# EAGLE library part IC_TTL_74_139 (library mylib_20130829)
IC_TTL_74_139 : Dual 2-line to 4-line DECODER/DEMULTIPLEXER Packages : _DIP : 2.54 x 16 x 300mil _FLAT : 1.27 x 16 x 150mil
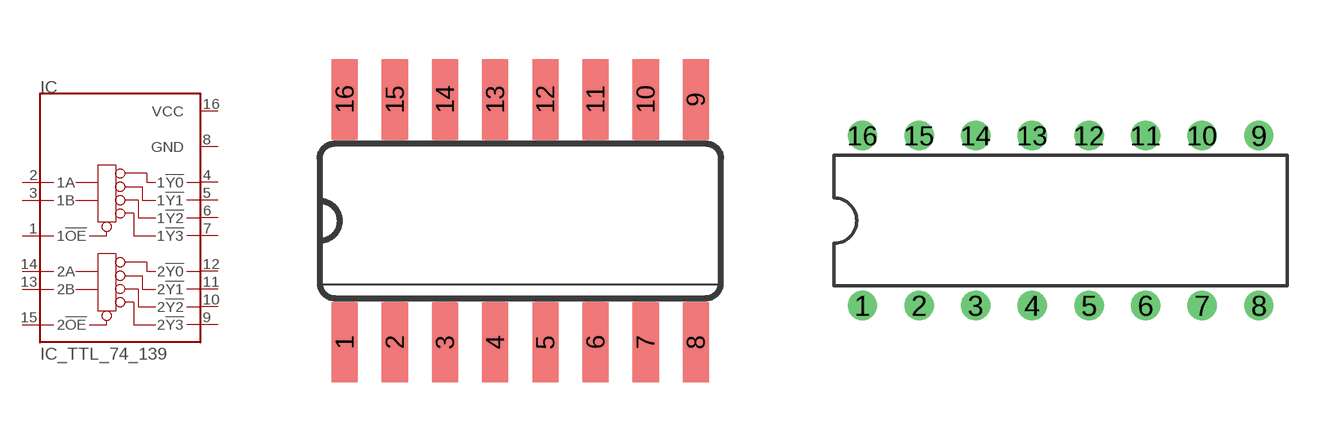
[diagram p73: symbol with the pads of IC_16_1.27_150MIL; footprints IC_16_1.27_150MIL, IC_SOCKET_DIL_16]

Designator prefix IC

## IC_TTL_74_139_FLAT  [IC_16_1.27_150MIL]
1  1!OE!  in
2  1A  in
3  1B  in
4  1!Y0!  out
5  1!Y1!  out
6  1!Y2!  out
7  1!Y3!  out
8  GND  pwr
9  2!Y3!  out
10  2!Y2!  out
11  2!Y1!  out
12  2!Y0!  out
13  2B  in
14  2A  in
15  2!OE!  in
16  VCC  pwr

## IC_TTL_74_139_DIP  [IC_SOCKET_DIL_16]
Pads as for IC_16_1.27_150MIL

## Footprint IC_16_1.27_150MIL (pad centres in mm)
Small Outline Package .150 SIOC Source: http://www.maxim-ic.com/package_drawings/21-0041B.pdf
smd 0.66 x 2.032: 1 -4.445,-3.073; 2 -3.175,-3.073; 3 -1.905,-3.073; 4 -0.635,-3.073; 5 0.635,-3.073; 6 1.905,-3.073; 7 3.175,-3.073; 8 4.445,-3.073; 9 4.445,3.073; 10 3.175,3.073; 11 1.905,3.073; 12 0.635,3.073; 13 -0.635,3.073; 14 -1.905,3.073; 15 -3.175,3.073; 16 -4.445,3.073

## Footprint IC_SOCKET_DIL_16 (pad centres in mm)
Dual In Line Package
drill 0.813: 1 -8.89,-3.81; 2 -6.35,-3.81; 3 -3.81,-3.81; 4 -1.27,-3.81; 5 1.27,-3.81; 6 3.81,-3.81; 7 6.35,-3.81; 8 8.89,-3.81; 9 8.89,3.81; 10 6.35,3.81; 11 3.81,3.81; 12 1.27,3.81; 13 -1.27,3.81; 14 -3.81,3.81; 15 -6.35,3.81; 16 -8.89,3.81